# Altium footprint library DO3316P.PcbLib: 1 footprints
Each footprint in its own frame and in the unit in brackets; x right, y up, seen from the top. Pads: shape width x height; smd on the part's side, far side on the other; paste and mask are expansions set on the pad; w line width, h text height; cw(c..) or ccw(c..) is an arc to the next point about the centre after c.
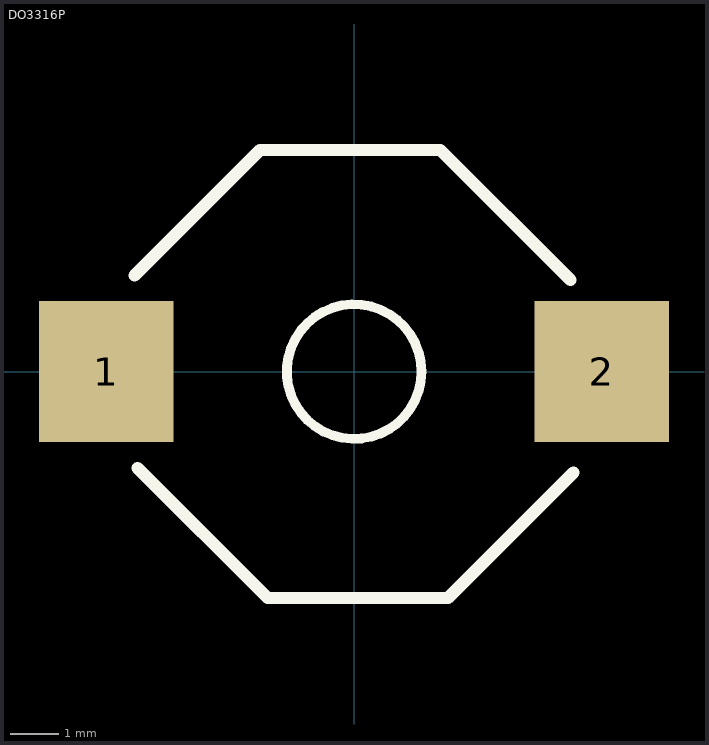
[diagram p0: the footprint, top view; thin cyan lines are the x and y axes]

## DO3316P [mil]
height 205.12
pads (2):
  rect 110x115 smd: 1(-202.5,0) 2(202.5,0)
Top Overlay:
  circle w7.87: c0.12,0 r55
  lines w7.87: -54.66,181.06 -1.3,181.11 ; 1.3,-185.04 54.66,-184.99
  lines w10: -179.36,78.53 -76.79,181.11 -1.3,181.11 70.52,181.06 176.82,74.76 ; -176.82,-78.69 -70.52,-184.99 1.3,-185.04 76.79,-185.04 179.36,-82.47
3D body: height 203.15, standoff -1.97, extent -245,-185.04 242.13,185.04